# EAGLE library part LMC6484IN (library JACartParts)
OP Amps Source: Datasheet <http://www.ti.com/lit/gpn/lmc6484>
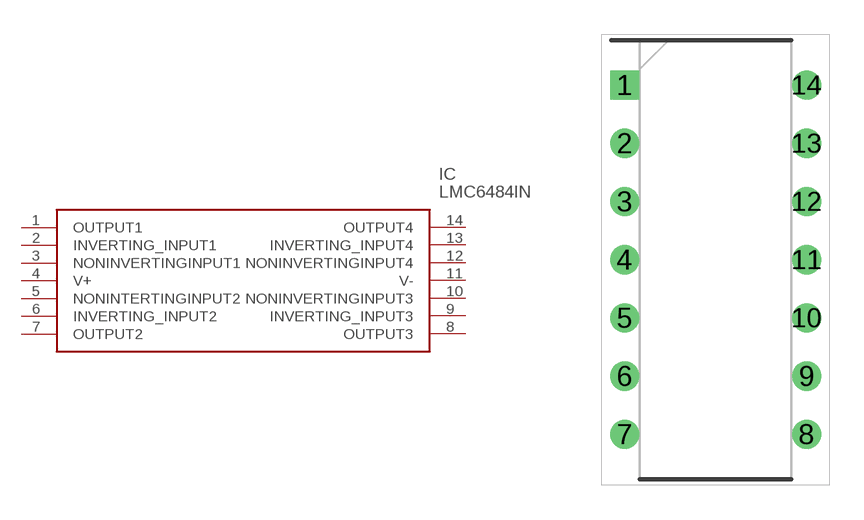
[diagram p1: symbol with the pads of DIP794W56P254L1905H533Q14N; footprint DIP794W56P254L1905H533Q14N]

Designator prefix IC

## LMC6484IN (DESCRIPTION: OP Amps; HEIGHT: 5.334mm; MANUFACTURER_NAME: Texas Instruments; MANUFACTURER_PART_NUMBER: LMC6484IN; MOUSER_PART_NUMBER: 926-LMC6484IN; MOUSER_PRICE-STOCK: https://www.mouser.com/Search/Refine.aspx?Keyword=926-LMC6484IN)  [DIP794W56P254L1905H533Q14N]
1  OUTPUT1
2  INVERTING_INPUT1
3  NONINVERTINGINPUT1
4  V+
5  NONINTERTINGINPUT2
6  INVERTING_INPUT2
7  OUTPUT2
8  OUTPUT3
9  INVERTING_INPUT3
10  NONINVERTINGINPUT3
11  V-
12  NONINVERTINGINPUT4
13  INVERTING_INPUT4
14  OUTPUT4

## Footprint DIP794W56P254L1905H533Q14N (pad centres in mm)
NFF0014A
drill 0.759 pad 1.159 square: 1 -3.969,7.62
drill 0.759 pad 1.159: 2 -3.969,5.08; 3 -3.969,2.54; 4 -3.969,0; 5 -3.969,-2.54; 6 -3.969,-5.08; 7 -3.969,-7.62; 8 3.969,-7.62; 9 3.969,-5.08; 10 3.969,-2.54; 11 3.969,0; 12 3.969,2.54; 13 3.969,5.08; 14 3.969,7.62